# Altium footprint library SnapEDApcb.PcbLib: 1 footprints
Each footprint in its own frame and in the unit in brackets; x right, y up, seen from the top. Pads: shape width x height; smd on the part's side, far side on the other; paste and mask are expansions set on the pad; w line width, h text height; cw(c..) or ccw(c..) is an arc to the next point about the centre after c.
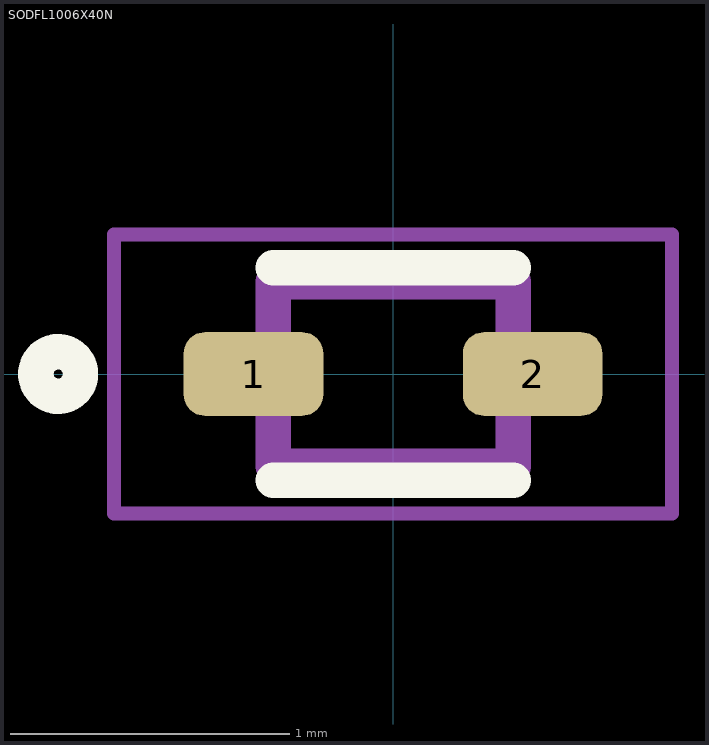
[diagram p0: the footprint, top view; thin cyan lines are the x and y axes]

## SODFL1006X40N [mm]
pads (2):
  rrect50% 0.5x0.3 smd: 1(-0.5,0) 2(0.5,0)
Top Overlay:
  circle w0.127: c-1.2,0 r0.08
  lines w0.127: -0.43,-0.38 0.43,-0.38 ; -0.43,0.38 0.43,0.38
Mechanical 13:
  lines w0.127: -0.43,-0.33 -0.43,0.33 0.43,0.33 0.43,-0.33 -0.43,-0.33
Mechanical 15:
  lines w0.05: -1,-0.5 -1,0.5 1,0.5 1,-0.5 -1,-0.5